# EAGLE library part DISTILLERY_SN65HVD230/1 (library power_v2)
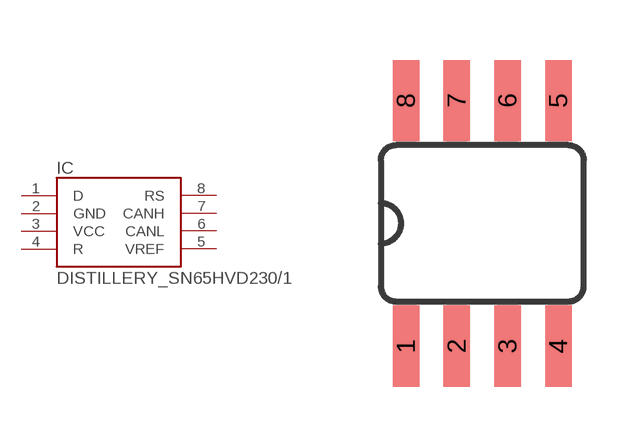
[diagram p3: symbol with the pads of DISTILLERY_SO8; footprint DISTILLERY_SO8]

Designator prefix IC

## DISTILLERY_SN65HVD230/1  [DISTILLERY_SO8]
1  D
2  GND  pwr
3  VCC  pwr
4  R
5  VREF
6  CANL
7  CANH
8  RS

## Footprint DISTILLERY_SO8 (pad centres in mm)
smd 0.66 x 2.032: 1 -1.905,-3.073; 2 -0.635,-3.073; 3 0.635,-3.073; 4 1.905,-3.073; 5 1.905,3.073; 6 0.635,3.073; 7 -0.635,3.073; 8 -1.905,3.073